# Altium footprint library 64-LQFP (10x10).PcbLib: 1 footprints
Each footprint in its own frame and in the unit in brackets; x right, y up, seen from the top. Pads: shape width x height; smd on the part's side, far side on the other; paste and mask are expansions set on the pad; w line width, h text height; cw(c..) or ccw(c..) is an arc to the next point about the centre after c.
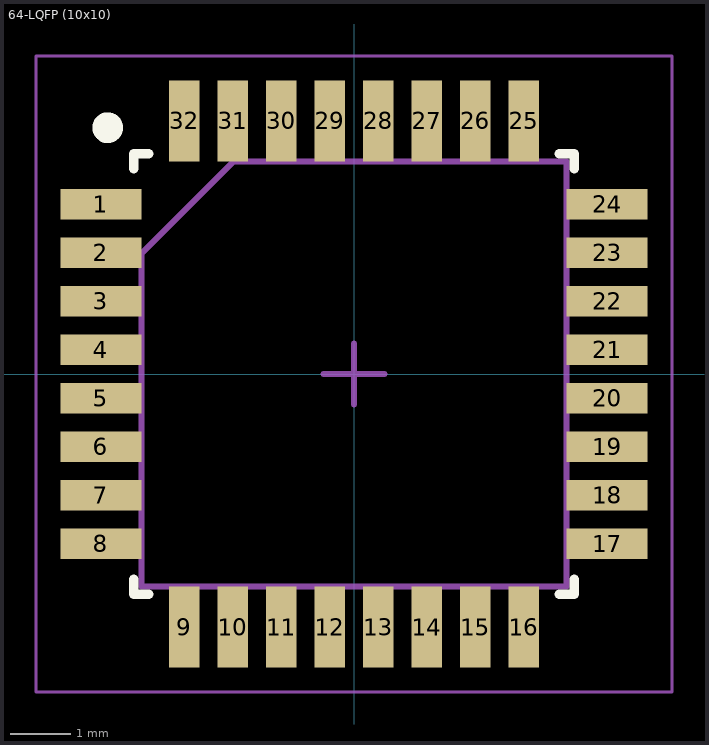
[diagram p0: the footprint, top view; thin cyan lines are the x and y axes]

## 64-LQFP (10x10) [mm]
pads (32):
  rect 1.341x0.507 smd paste+0 mask+0: 1(-4.176,2.8) 2(-4.176,2) 3(-4.176,1.2) 4(-4.176,0.4) 5(-4.176,-0.4) 6(-4.176,-1.2) 7(-4.176,-2) 8(-4.176,-2.8) 17(4.176,-2.8) 18(4.176,-2) 19(4.176,-1.2) 20(4.176,-0.4) 21(4.176,0.4) 22(4.176,1.2) 23(4.176,2) 24(4.176,2.8)
  rect 0.507x1.341 smd paste+0 mask+0: 9(-2.8,-4.176) 10(-2,-4.176) 11(-1.2,-4.176) 12(-0.4,-4.176) 13(0.4,-4.176) 14(1.2,-4.176) 15(2,-4.176) 16(2.8,-4.176) 25(2.8,4.176) 26(2,4.176) 27(1.2,4.176) 28(0.4,4.176) 29(-0.4,4.176) 30(-1.2,4.176) 31(-2,4.176) 32(-2.8,4.176)
Top Overlay:
  circle w0.254: c-4.064,4.064 r0.127
  lines w0.152: -3.632,-3.386 -3.632,-3.632 -3.386,-3.632 ; -3.632,3.386 -3.632,3.632 -3.386,3.632 ; 3.386,-3.632 3.632,-3.632 3.632,-3.386 ; 3.386,3.632 3.632,3.632 3.632,3.386
Mechanical 1:
  lines w0.1: -3.505,-3.505 3.505,-3.505 3.505,3.505 -1.995,3.505 -3.505,1.995 -3.505,-3.505
  text ".Designator" at -3.125,-0.158 h0.65
Mechanical 2:
  lines w0.05: -5.25,-5.25 5.25,-5.25 5.25,5.25 -5.25,5.25 -5.25,-5.25
  lines w0.1: -0.5,0 0.5,0 ; 0,-0.5 0,0.5
3D body "98ASH70029A_NXP.step": height 1.6, standoff 0, extent -4.496,-4.496 4.496,4.496